# EAGLE library part 251-307 (library con-wago_251)
Serie 251, Kombi-Leiterplatten-Klemmenblock mit IDC-Kontakt / Series 251, Combi PCB terminal block with IDC contact Polzahl / Pole No.: 7 Rastermaß / Pitch: 3.5 - 3.5 mm Bemessungsspannung / Rated Voltage: 500 V Nennstrom / Nominal Current: 6 A Leiterquerschnitt / Conductor Size: 0.5 - 1 mm2 Anschlusstechnik / Connection Technology: PUSH WIRE® Lötstiftlänge: / Solder Pin Length: 3.2 mm Leitereinführung (zur Platine) / Conductor entry angle (to PCB): 0 ° Farbe / Color: weiß / white Stand: 01.01.2014. Die jeweils aktuellen Daten zu diesem Artikel finden Sie in unserem Produktkatalog, den Sie unter www.wago.com einsehen können. As of: 01/01/2014. Please find the newest data for this article in our product catalogue, which can be viewed under www.wago.com.
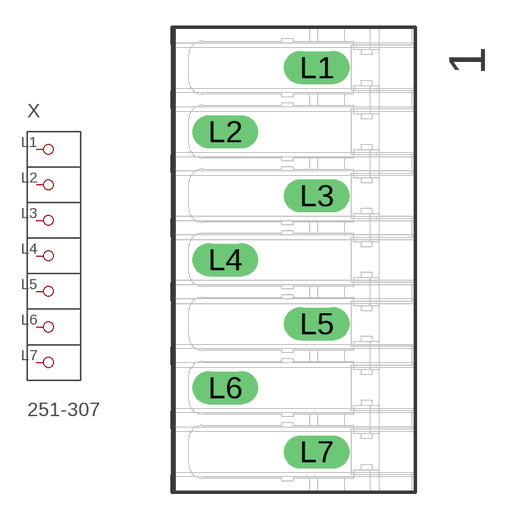
[diagram p3: symbol with the pads of P-251-307; footprint P-251-307]

Designator prefix X

## 251-307  [P-251-307]
L1  P1
L2  P2
L3  P3
L4  P4
L5  P5
L6  P6
L7  P7

## Footprint P-251-307 (pad centres in mm)
drill 1.2 long: L1 1.25,10.5; L2 -3.75,7; L3 1.25,3.5; L4 -3.75,0; L5 1.25,-3.5; L6 -3.75,-7; L7 1.25,-10.5